# Altium schematic symbol library AUVic_Schematic_Library_Regulators.SchLib: 41 symbols (part 1 of 2)
Pins are listed as number, name and electrical type; pins without a type are passive.

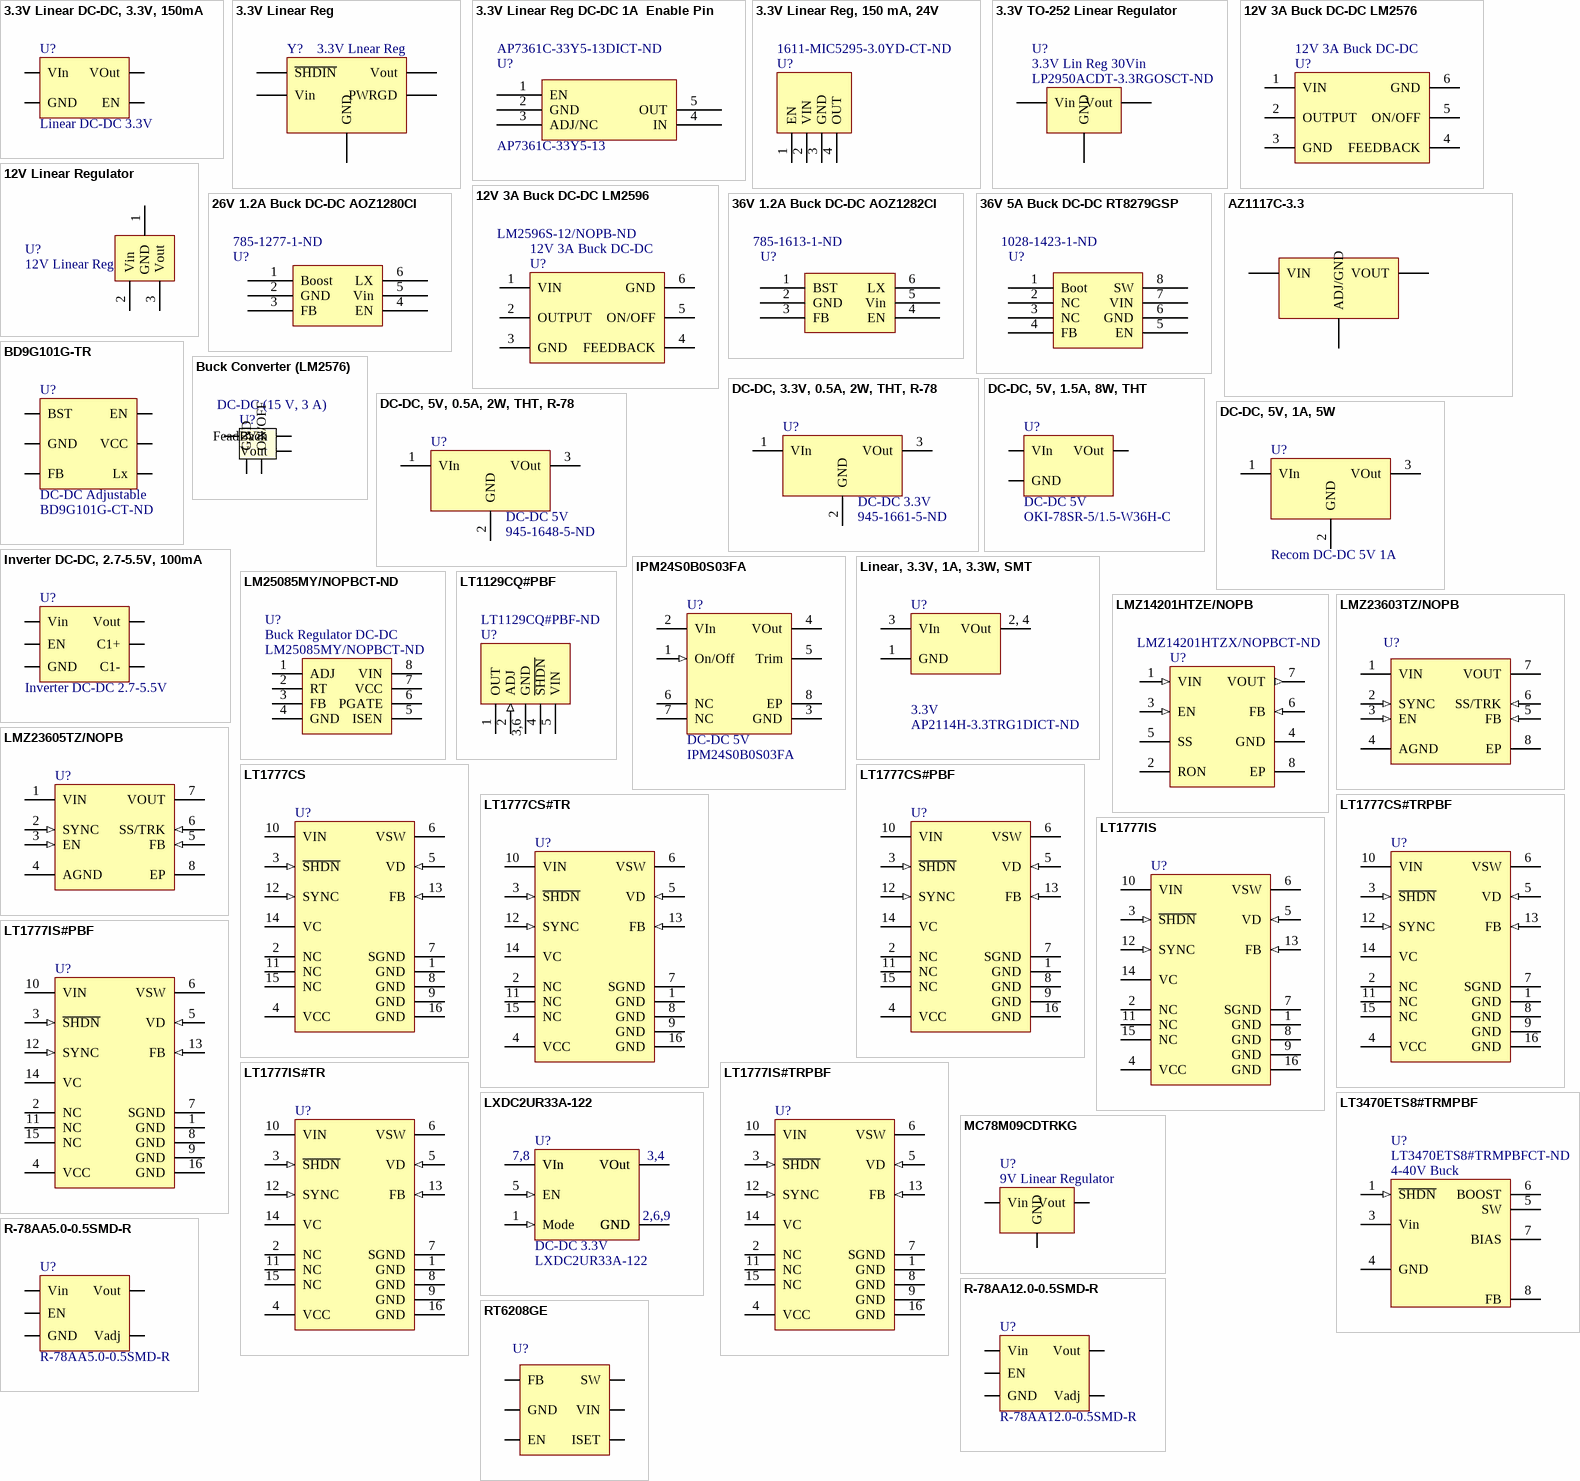
[diagram p0: symbols 3.3V Linear DC-DC, 3.3V, 150mA to RT6208GE]

## 3.3V Linear DC-DC, 3.3V, 150mA
designator U?, comment Linear DC-DC 3.3V
3.3V Linear DC-DC, 3.3V, 150mA; Manufacturer #: OKI-78SR-5/1.5-W36H-C; VIn Max: 16; Vin Min: 0V; Made By: Andy Bates; VOut1: 3.3V; Current: 150mA; Supplier 1: Digi-Key; Supplier Part Number 1: 576-2980-1-ND
footprint SOT-23-5
pins: 1 VIn (power), 2 GND (power), 3 EN, 5 VOut (power)

## 3.3V Linear Reg
designator Y?, comment 3.3V Lnear Reg
DC-DC, 3.3V, 1A, SMT; Manufacturer: Microchip Technology; Manufacturer Part Number: MCP1826-3302E/ET; Created By: Jordan Day; Date Created: 06/10/2016; Supplier: Digikey; Supplier Part Number: MCP1826-3302E/ET-ND
footprint 5-DDPAK
pins: 1 ~{SHDIN} "Shutdown Control Input", 2 Vin "Voltage Input", 3 GND "Ground", 4 Vout "Voltage Output", 5 PWRGD "Power Good Output"

## 3.3V Linear Reg DC-DC 1A  Enable Pin
designator U?, comment AP7361C-33Y5-13  Supplier Part Number 1: AP7361C-33Y5-13DICT-ND
3.3V Lin Reg, 6 Vin max, 1 A,  Enable Pin; Made By: Robert Keen; ComponentLink1Description: Digikey; ComponentLink1URL: https://www.digikey.ca/product-detail/en/diodes-incorporated/AP7361C-33Y5-13/AP7361C-33Y5-13DICT-ND/5638337; Supplier 1: Digi-Key; Created on: 2018-07-11
footprint SOT-89-5
pins: 1 EN, 2 GND, 3 ADJ/NC, 4 IN, 5 OUT

## 3.3V Linear Reg, 150 mA, 24V
designator U?  Supplier Part Number 1: 1611-MIC5295-3.0YD-CT-ND
24V Maximum Input Voltage, 700mA; Made By: Andy Bates; PinCount: 5; Created On: 2016-09-10; Supplier 1: Digi-Key
footprint TO252-5
pins: 1 EN (power), 2 VIN, 3 GND, 4 OUT (power)

## 3.3V TO-252 Linear Regulator
designator U?, comment 3.3V Lin Reg 30Vin  Supplier Part Number 1: LP2950ACDT-3.3RGOSCT-ND
Supplier 1: Digi-Key
footprint T0-252
pins: 1 GND, 2 Vin, 3 Vout

## 12V 3A Buck DC-DC LM2576
designator U?, comment 12V 3A Buck DC-DC
Buck Switching Regulator IC Positive Fixed 12V 1 Output 3A TO-263-6, D²Pak (5 Leads + Tab), TO-263BA; Supplier 1: Digi-Key; Created By: Poorna Chander Kalidas; ComponentLink1Description: Digi-Key; ComponentLink1URL: https://www.digikey.ca/product-detail/en/microchip-technology/LM2576-12WU/576-2130-ND/1027675; Supplier Part Number 1: 576-2130-ND
footprint 5-DDPAK
pins: 1 VIN, 2 OUTPUT, 3 GND, 4 FEEDBACK, 5 ON/OFF, 6 GND

## 12V 3A Buck DC-DC LM2596
designator U?, comment 12V 3A Buck DC-DC  Supplier Part Number 1: LM2596S-12/NOPB-ND
Buck Switching Regulator IC Positive Fixed 12V 1 Output 3A TO-263-6, D²Pak (5 Leads + Tab), TO-263BA; Created By: Poorna Chander Kalidas; ComponentLink1Description: Digi-Key; ComponentLink1URL: https://www.digikey.ca/product-detail/en/texas-instruments/LM2596S-12-NOPB/LM2596S-12-NOPB-ND/363703; Supplier 1: Digi-Key
footprint 5-DDPAK
pins: 1 VIN, 2 OUTPUT, 3 GND, 4 FEEDBACK, 5 ON/OFF, 6 GND

## 12V Linear Regulator
designator U?, comment 12V Linear Reg
Made By: Andy Bates; Supplier 1: Digikey; Supplier 1 Part Number: 497-1209-1-ND
footprint T0-252
pins: 1 GND, 2 Vin, 3 Vout

## 26V 1.2A Buck DC-DC AOZ1280CI
designator U?  Supplier Part Number 1: 785-1277-1-ND
Created by: Robert Keen; Created on: 2018-07-11; ComponentLink1Description: Digikey; ComponentLink1URL: https://www.digikey.ca/product-detail/en/alpha-omega-semiconductor-inc/AOZ1280CI/785-1277-1-ND/2769845; Supplier 1: Digi-Key
footprint SOT23-6_M (SOT23, 6-Leads, Body 2.9x1.6mm, Pitch 0.95mm, Lead Span 2.7mm, IPC Low Density)
pins: 1 Boost, 2 GND, 3 FB, 4 EN, 5 Vin, 6 LX

## 36V 1.2A Buck DC-DC AOZ1282CI
designator U?  Supplier Part Number 2: 785-1613-1-ND
Made by: Robert Keen; ComponentLink1Description: Digikey; ComponentLink1URL: https://www.digikey.ca/product-detail/en/alpha-omega-semiconductor-inc/AOZ1282CI/785-1613-1-ND/4147125; Supplier 1: Digi-Key; Made on: 2018-07-12; Supplier 2: Digi-Key
footprint SOT-23-6L (SOT23, 6-Leads, Body 3.1x1.7mm, Pitch 0.95mm)
pins: 1 BST, 2 GND, 3 FB, 4 EN, 5 Vin, 6 LX

## 36V 5A Buck DC-DC RT8279GSP
designator U?  Supplier Part Number 3: 1028-1423-1-ND
Made by: Robert Keen; Supplier 1: Digi-Key; Made on: 2017-07-18; Supplier 2: Digi-Key; ComponentLink1Description: Digikey; ComponentLink1URL: https://www.digikey.ca/product-detail/en/richtek-usa-inc/RT8279GSP/1028-1423-1-ND/5880353; Supplier 3: Digi-Key
footprint 8-SOP-EP
pins: 1 Boot, 2 NC, 3 NC, 4 FB, 5 EN, 6 GND, 7 VIN, 8 SW

## AZ1117C-3.3
designator Q?
3.3V Linear Regulator; Manufactuer Part No.: AZ1117CH-3.3TRG1; LatestRevisionDate: 17-Jul-2002; LatestRevisionNote: Re-released for DXP Platform.; Publisher: Altium Limited; Created By: Jordan; Supplier: Digikey; Supplier Part No.: AZ1117CH-3.3TRG1DICT-ND
footprint SOT-223-4pin
pins: 1 ADJ/GND "Adjust/Ground", 2 VOUT "Output", 3 VIN "Voltage Input"

## BD9G101G-TR
designator U?, comment DC-DC Adjustable  Supplier Part Number 1: BD9G101G-CT-ND
DC-DC Regulator, 6V-42V in, 1V-29.4V out, 500mA; Supplier 1: Digi-Key; Created By: Lyden Smith; Created On: 2017-06-02
footprint SOT23-6_L (SOT23, 6-Leads, Body 2.9x1.6mm, Pitch 0.95mm, Lead Span 2.7mm, IPC High Density)
footprint SOT23-6_M (SOT23, 6-Leads, Body 2.9x1.6mm, Pitch 0.95mm, Lead Span 2.7mm, IPC Low Density)
footprint SOT23-6_N (SOT23, 6-Leads, Body 2.9x1.6mm, Pitch 0.95mm, Lead Span 2.7mm, IPC Medium Density)
pins: 1 BST (power), 2 GND (power), 3 FB (power), 4 EN, 5 VCC (power), 6 Lx (power)

## Buck Converter (LM2576)
designator U?, comment DC-DC (15 V, 3 A)
pins: 1 Vin (power), 2 Vout (power), 3 GND (power), 4 FeadBack, 5 ON/OFF

## DC-DC, 3.3V, 0.5A, 2W, THT, R-78
designator U?, comment DC-DC 3.3V  Supplier Part Number 1: 945-1661-5-ND
DC-DC, 3.3V, 0.5A, 2W, THT, R-78; VIn Max: 7V; Vin Min: 28V; VOut1: 3.3V; Power: 2W; Current: 0.5A; Supplier 1: Digi-Key
footprint Recom_R-78
pins: 1 VIn (power), 2 GND (power), 3 VOut (power)

## DC-DC, 5V, 0.5A, 2W, THT, R-78
designator U?, comment DC-DC 5V  Supplier Part Number 1: 945-1648-5-ND
DC-DC, 5V, 0.5A, 2W, THT, R-78; VIn Max: 7V; Vin Min: 28V; VOut1: 5V; Power: 2W; Current: 0.5A; Supplier 1: Digi-Key
footprint Recom_R-78
pins: 1 VIn (power), 2 GND (power), 3 VOut (power)

## DC-DC, 5V, 1.5A, 8W, THT
designator U?, comment DC-DC 5V  Manufacturer #: OKI-78SR-5/1.5-W36H-C
DC-DC, 5V, 1.5A, 8W, THT; VIn Max: 7V; Vin Min: 36V; Supplier 1: Digi-Key; VOut1: 5V; Power: 8W; Current: 1.5A; Supplier Part Number 1: 811-2692-ND
footprint Murata_OKI-78SR
pins: 1 VIn (power), 2 GND (power), 3 VOut (power)

## DC-DC, 5V, 1A, 5W
designator U?, comment Recom DC-DC 5V 1A
Made by: Andy Bates; Supplier 1: Digikey; Supplier 1 part number: 945-2201-ND
footprint Recom_R-78
pins: 1 VIn (power), 2 GND (power), 3 VOut (power)

## Inverter DC-DC, 2.7-5.5V, 100mA
designator U?, comment Inverter DC-DC 2.7-5.5V
3.3V Linear DC-DC, 3.3V, 150mA; Manufacturer #: LM2776; Vin Max: 5.5V; Vin Min: 2.7V; Output Impedance: 2.5; Current: 200mA; Made By: Robert Keen; Supplier 1: Digi-Key; Supplier Part Number 1: 296-43957-1-ND; ComponentLink1Description: DigiKey; ComponentLink1URL: https://www.digikey.ca/product-detail/en/texas-instruments/LM2776DBVR/296-43957-1-ND/5973203
footprint SOT-23-6
pins: 1 Vin (power), 2 EN (power), 2 GND (power), 2 C1- (power), 3 C1+, 5 Vout (power)

## IPM24S0B0S03FA
designator U?, comment DC-DC 5V  Manufacturer #: IPM24S0B0S03FA
DC-DC, 5V, 3A, 20W, SMT; VIn Max: 11V; Vin Min: 36V; VOut1: 3.3V-6.5V; Power: 20W; Current: 3A; Supplier 1: Digi-Key; Supplier Part Number 1: 941-1010-1-ND
footprint IPM24S0B0S03FA
pins: 1 On/Off (in), 2 VIn (power), 3 GND (power), 4 VOut (power), 5 Trim (power), 6 NC, 7 NC, 8 EP (power)

## Linear, 3.3V, 1A, 3.3W, SMT
designator U?, comment 3.3V  Supplier Part Number 1: AP2114H-3.3TRG1DICT-ND
Linear, 3.3V, 1A, 3.3W, SMT; Made By: Andy Bates; VIn Max: 6V; Supplier 1 Part Number: AP2114H-3.3TRG1DICT-ND; VIn Min: *; VOut: 3.3V; Supplier 1: Digi-Key
footprint SOT-223-4pin
pins: 1 GND (power), 2 VOut (power), 3 VIn (power), 4 VOut (power)
1 alternate drawing of the same symbol
text: 2, 4

## LM25085MY/NOPBCT-ND
designator U?, comment Buck Regulator DC-DC  Supplier Part Number 1: LM25085MY/NOPBCT-ND
Supplier 1: Digi-Key
footprint 8-MSOP-EP
pins: 1 ADJ, 2 RT, 3 FB, 4 GND, 5 ISEN, 6 PGATE, 7 VCC, 8 VIN

## LMZ14201HTZE/NOPB
designator U?  Supplier Part Number 1: LMZ14201HTZX/NOPBCT-ND
1A SIMPLE SWITCHER® Power Module with 42V Maximum Input, 7-pin TO-PMOD, Pb-Free, 45 Rail; PartNumber: LMZ14201HTZE/NOPB; Manufacturer: National Semiconductor; PackageTopMarking: NSUZXYTTE#*LMZ14201*HTZ; PowerWise: Y; DatasheetVersion: Jan-2011; PackageVersion: revD, Apr-2011; PackageReference: TZA07A; PackageDescription: TO-PMOD-7, 10.16 x 9.85 x 4.57 mm Body, 7 Lead, 1.27mm Pitch, Surface Mount; RoHS: Y; PinCount: 7; CompType: Switcher; High-Reliability: Y; ComponentLink1Description: Manufacturer URL; ComponentLink1URL: http://www.national.com/; ComponentLink2Description: LMZ14201 Datasheet; ComponentLink2URL: http://www.national.com/ds/LM/LMZ14201H.pdf; ComponentLink3Description: LMZ14201H Web Page; ComponentLink3URL: http://www.national.com/pf/LM/LMZ14201H.html; ComponentLink4Description: TZA07A Package Page; ComponentLink4URL: http://www.national.com/packaging/folders/tza07a.html; Supplier 1: Digi-Key
footprint TZA07A_V (D2-PAK, 8-Leads, Body 9.9x10.2mm, Pitch 1.27mm, Lead Span 13.8mm, NSC Recommended)
pins: 1 VIN (in), 2 RON, 3 EN (in), 4 GND (power), 5 SS, 6 FB (in), 7 VOUT (out), 8 EP

## LMZ23603TZ/NOPB
designator U?
3A SIMPLE SWITCHER® Power Module with 36V Maximum Input Voltage, 7 pin TO-PMOD, 45 Rail; PartNumber: LMZ23603TZ/NOPB; Manufacturer: National Semiconductor; PackageTopMarking: NSUZXYTTE#*LMZ23603; PowerWise: N; High-Reliability: Y; DatasheetVersion: Apr-2011; PackageVersion: revD, Apr-2011; PackageReference: TZA07A; PackageDescription: TO-PMOD-7, 10.16 x 9.85 x 4.57 mm Body, 7 Lead, 1.27mm Pitch, Surface Mount; RoHS: Y; PinCount: 7; CompType: Switcher; ComponentLink1Description: Manufacturer URL; ComponentLink1URL: http://www.national.com/; ComponentLink2Description: LMZ23603 Datasheet; ComponentLink2URL: http://www.national.com/ds/LM/LMZ23603.pdf; ComponentLink3Description: LMZ23603 Web Page; ComponentLink3URL: http://www.national.com/pf/LM/LMZ23603.html; ComponentLink4Description: TZA07A Package Page; ComponentLink4URL: http://www.national.com/packaging/folders/tza07a.html; Supplier 1: Digi-Key; Supplier Part Number 1: LMZ23603TZ/NOPB-ND
footprint TZA07A_V (D2-PAK, 8-Leads, Body 9.9x10.2mm, Pitch 1.27mm, Lead Span 13.8mm, NSC Recommended)
pins: 1 VIN (power), 2 SYNC (in), 3 EN (in), 4 AGND (power), 5 FB (in), 6 SS/TRK (in), 7 VOUT (power), 8 EP (power)

## LMZ23605TZ/NOPB
designator U?
5A SIMPLE SWITCHER® Power Module with 36V Maximum Input Voltage, 7 pin TO-PMOD, 45 Rail; PartNumber: LMZ23605TZ/NOPB; Manufacturer: National Semiconductor; PackageTopMarking: NSUZXYTTE#*LMZ23605; PowerWise: N; High-Reliability: Y; DatasheetVersion: Apr-2011; PackageVersion: revD, Apr-2011; PackageReference: TZA07A; PackageDescription: TO-PMOD-7, 10.16 x 9.85 x 4.57 mm Body, 7 Lead, 1.27mm Pitch, Surface Mount; RoHS: Y; PinCount: 7; CompType: Switcher; ComponentLink1Description: Manufacturer URL; ComponentLink1URL: http://www.national.com/; ComponentLink2Description: LMZ23605 Datasheet; ComponentLink2URL: http://www.national.com/ds/LM/LMZ23605.pdf; ComponentLink3Description: LMZ23605 Web Page; ComponentLink3URL: http://www.national.com/pf/LM/LMZ23605.html; ComponentLink4Description: TZA07A Package Page; ComponentLink4URL: http://www.national.com/packaging/folders/tza07a.html; Supplier 1: Digi-Key; Supplier Part Number 1: 296-35357-1-ND
footprint TZA07A_V (D2-PAK, 8-Leads, Body 9.9x10.2mm, Pitch 1.27mm, Lead Span 13.8mm, NSC Recommended)
pins: 1 VIN (power), 2 SYNC (in), 3 EN (in), 4 AGND (power), 5 FB (in), 6 SS/TRK (in), 7 VOUT (power), 8 EP (power)

## LT1129CQ#PBF
designator U?  Supplier Part Number 1: LT1129CQ#PBF-ND
30V Maximum Input Voltage, 700mA; Made By: Andy Bates; PinCount: 7; Created On: 2016-09-10; Supplier 1: Digi-Key
footprint 5-DDPAK
pins: 1 OUT (power), 2 ADJ (in), 3,6 GND, 4 ~{SHDN} (power), 5 VIN

## LT1777CS
designator U?
Low Noise Step-Down Switching Regulator, 16-pin SOP (S-16), 0 to 125 degC; Manufacturer: Linear Technology; PartNumber: LT1777CS; Frequency Sync Range: 130kHz - 250kHz; Number of Outputs: 1; PackageVersion: Rev. G, 05/2012; PackageReference: S-16; PackageDescription: 16-Pin Plastic Small Outline, Body 9.9 x 3.9 mm, Pitch 1.27 mm; Supplier 1: Digi-Key; Supplier Part Number 1: LT1777CS-ND; RoHS: FALSE; Mounting Technology: Surface Mount; ComponentLink1Description: Manufacturer URL; ComponentLink1URL: http://www.linear.com/; ComponentLink2Description: Datasheet; ComponentLink2URL: http://cds.linear.com/docs/en/datasheet/1777f.pdf; ComponentLink3Description: Package Specification; ComponentLink3URL: http://cds.linear.com/docs/en/packaging/S16%2005-08-1610%20Rev%20G.pdf
footprint LT-S-16_N (SOP, 16-Leads, Body 10x4mm, Pitch 1.27mm, IPC Medium Density)
footprint LT-S-16_L (SOP, 16-Leads, Body 10x4mm, Pitch 1.27mm, IPC High Density)
footprint LT-S-16_M (SOP, 16-Leads, Body 10x4mm, Pitch 1.27mm, IPC Low Density)
pins: 1 GND (power) "These corner package pins are mechanically connected to the die paddle and thus aid in conducting away internally generated heat. As these are electrically connected to the die substrate, they must be held at ground (See Datasheet)", 2 NC "Package Pins 2, 11 and 15 are unconnected.", 3 ~{SHDN} (in) "When pulled below the shutdown mode threshold, nominally 0.5V, this pin turns off the regulator and reduces VIN input current to a few tens of microamperes (shutdown mode). When this pin is held above the shutdown mode (See Datasheet)", 4 VCC (power) "Pin to power the internal control circuitry from the switching supply output. Proper use of this pin enhances overall power supply efficiency. During start-up conditions, internal control circuitry is powered directly from (See Datasheet)", 5 VD (in) "This pin is used in conjunction with a small external sense inductor to limit power path dI/dt. The sense inductor is placed between the VSW output node and the cathode of the freewheeling (power) diode, and the VD pin is (See Datasheet)", 6 VSW (power) "This is the emitter node of the output switch and has large currents flowing through it. Keep the traces to the switching components as short as possible to minimize electromagnetic radiation and voltage spikes.", 7 SGND (power) "This is the device signal ground pin. The internal reference and feedback amplifier are referred to it. Keep the ground path connection to the FB divider and the VC compensation capacitor free of large ground currents.", 8 GND (power) "These corner package pins are mechanically connected to the die paddle and thus aid in conducting away internally generated heat. As these are electrically connected to the die substrate, they must be held at ground (See Datasheet)", 9 GND (power) "These corner package pins are mechanically connected to the die paddle and thus aid in conducting away internally generated heat. As these are electrically connected to the die substrate, they must be held at ground (See Datasheet)", 10 VIN (power) "This is the high voltage supply pin for the output switch. It also supplies power to the internal control circuitry during start-up conditions or if the VCC pin is left open. A high quality bypass capacitor which meets the (See Datasheet)", 11 NC "Package Pins 2, 11 and 15 are unconnected.", 12 SYNC (in) "Pin to synchronize internal oscillator to external frequency reference. It is directly logic compatible and can be driven with any signal between 10% and 90% duty cycle. The sync function is internally disabled if the FB pin (See Datasheet)", 13 FB (in) "This is the inverting input to the feedback amplifier. The noninverting input of this amplifier is internally tied to the 1.24V reference. This pin also slows down the frequency of the internal oscillator when its voltage is (See Datasheet)", 14 VC "This is the control voltage pin which is the output of the feedback amplifier and the input of the current comparator. Frequency compensation of the overall loop is effected by placing a capacitor (or in most cases a series (See Datasheet)", 15 NC "Package Pins 2, 11 and 15 are unconnected.", 16 GND (power) "These corner package pins are mechanically connected to the die paddle and thus aid in conducting away internally generated heat. As these are electrically connected to the die substrate, they must be held at ground (See Datasheet)"

## LT1777CS#PBF
designator U?
Low Noise Step-Down Switching Regulator, 16-pin SOP (S-16), 0 to 125 degC, Pb-Free; Manufacturer: Linear Technology; PartNumber: LT1777CS#PBF; Frequency Sync Range: 130kHz - 250kHz; Number of Outputs: 1; PackageVersion: Rev. G, 05/2012; PackageReference: S-16; PackageDescription: 16-Pin Plastic Small Outline, Body 9.9 x 3.9 mm, Pitch 1.27 mm; Supplier 1: Digi-Key; Supplier Part Number 1: LT1777CS#PBF-ND; Supplier 2: Farnell; Supplier Part Number 2: 1273790; Supplier 3: Newark; Supplier Part Number 3: 57M6299; RoHS: TRUE; Mounting Technology: Surface Mount; ComponentLink1Description: Manufacturer URL; ComponentLink1URL: http://www.linear.com/; ComponentLink2Description: Datasheet; ComponentLink2URL: http://cds.linear.com/docs/en/datasheet/1777f.pdf; ComponentLink3Description: Package Specification; ComponentLink3URL: http://cds.linear.com/docs/en/packaging/S16%2005-08-1610%20Rev%20G.pdf
footprint LT-S-16_N (SOP, 16-Leads, Body 10x4mm, Pitch 1.27mm, IPC Medium Density)
footprint LT-S-16_L (SOP, 16-Leads, Body 10x4mm, Pitch 1.27mm, IPC High Density)
footprint LT-S-16_M (SOP, 16-Leads, Body 10x4mm, Pitch 1.27mm, IPC Low Density)
pins: 1 GND (power) "These corner package pins are mechanically connected to the die paddle and thus aid in conducting away internally generated heat. As these are electrically connected to the die substrate, they must be held at ground (See Datasheet)", 2 NC "Package Pins 2, 11 and 15 are unconnected.", 3 ~{SHDN} (in) "When pulled below the shutdown mode threshold, nominally 0.5V, this pin turns off the regulator and reduces VIN input current to a few tens of microamperes (shutdown mode). When this pin is held above the shutdown mode (See Datasheet)", 4 VCC (power) "Pin to power the internal control circuitry from the switching supply output. Proper use of this pin enhances overall power supply efficiency. During start-up conditions, internal control circuitry is powered directly from (See Datasheet)", 5 VD (in) "This pin is used in conjunction with a small external sense inductor to limit power path dI/dt. The sense inductor is placed between the VSW output node and the cathode of the freewheeling (power) diode, and the VD pin is (See Datasheet)", 6 VSW (power) "This is the emitter node of the output switch and has large currents flowing through it. Keep the traces to the switching components as short as possible to minimize electromagnetic radiation and voltage spikes.", 7 SGND (power) "This is the device signal ground pin. The internal reference and feedback amplifier are referred to it. Keep the ground path connection to the FB divider and the VC compensation capacitor free of large ground currents.", 8 GND (power) "These corner package pins are mechanically connected to the die paddle and thus aid in conducting away internally generated heat. As these are electrically connected to the die substrate, they must be held at ground (See Datasheet)", 9 GND (power) "These corner package pins are mechanically connected to the die paddle and thus aid in conducting away internally generated heat. As these are electrically connected to the die substrate, they must be held at ground (See Datasheet)", 10 VIN (power) "This is the high voltage supply pin for the output switch. It also supplies power to the internal control circuitry during start-up conditions or if the VCC pin is left open. A high quality bypass capacitor which meets the (See Datasheet)", 11 NC "Package Pins 2, 11 and 15 are unconnected.", 12 SYNC (in) "Pin to synchronize internal oscillator to external frequency reference. It is directly logic compatible and can be driven with any signal between 10% and 90% duty cycle. The sync function is internally disabled if the FB pin (See Datasheet)", 13 FB (in) "This is the inverting input to the feedback amplifier. The noninverting input of this amplifier is internally tied to the 1.24V reference. This pin also slows down the frequency of the internal oscillator when its voltage is (See Datasheet)", 14 VC "This is the control voltage pin which is the output of the feedback amplifier and the input of the current comparator. Frequency compensation of the overall loop is effected by placing a capacitor (or in most cases a series (See Datasheet)", 15 NC "Package Pins 2, 11 and 15 are unconnected.", 16 GND (power) "These corner package pins are mechanically connected to the die paddle and thus aid in conducting away internally generated heat. As these are electrically connected to the die substrate, they must be held at ground (See Datasheet)"

## LT1777CS#TR
designator U?
Low Noise Step-Down Switching Regulator, 16-pin SOP (S-16), 0 to 125 degC, Tape and Reel; Manufacturer: Linear Technology; PartNumber: LT1777CS#TR; Frequency Sync Range: 130kHz - 250kHz; Number of Outputs: 1; PackageVersion: Rev. G, 05/2012; PackageReference: S-16; PackageDescription: 16-Pin Plastic Small Outline, Body 9.9 x 3.9 mm, Pitch 1.27 mm; Supplier 1: Digi-Key; Supplier Part Number 1: LT1777CS#TR-ND; Packing: Tape and Reel; RoHS: FALSE; Mounting Technology: Surface Mount; ComponentLink1Description: Manufacturer URL; ComponentLink1URL: http://www.linear.com/; ComponentLink2Description: Datasheet; ComponentLink2URL: http://cds.linear.com/docs/en/datasheet/1777f.pdf; ComponentLink3Description: Package Specification; ComponentLink3URL: http://cds.linear.com/docs/en/packaging/S16%2005-08-1610%20Rev%20G.pdf
footprint LT-S-16_N (SOP, 16-Leads, Body 10x4mm, Pitch 1.27mm, IPC Medium Density)
footprint LT-S-16_L (SOP, 16-Leads, Body 10x4mm, Pitch 1.27mm, IPC High Density)
footprint LT-S-16_M (SOP, 16-Leads, Body 10x4mm, Pitch 1.27mm, IPC Low Density)
pins: 1 GND (power) "These corner package pins are mechanically connected to the die paddle and thus aid in conducting away internally generated heat. As these are electrically connected to the die substrate, they must be held at ground (See Datasheet)", 2 NC "Package Pins 2, 11 and 15 are unconnected.", 3 ~{SHDN} (in) "When pulled below the shutdown mode threshold, nominally 0.5V, this pin turns off the regulator and reduces VIN input current to a few tens of microamperes (shutdown mode). When this pin is held above the shutdown mode (See Datasheet)", 4 VCC (power) "Pin to power the internal control circuitry from the switching supply output. Proper use of this pin enhances overall power supply efficiency. During start-up conditions, internal control circuitry is powered directly from (See Datasheet)", 5 VD (in) "This pin is used in conjunction with a small external sense inductor to limit power path dI/dt. The sense inductor is placed between the VSW output node and the cathode of the freewheeling (power) diode, and the VD pin is (See Datasheet)", 6 VSW (power) "This is the emitter node of the output switch and has large currents flowing through it. Keep the traces to the switching components as short as possible to minimize electromagnetic radiation and voltage spikes.", 7 SGND (power) "This is the device signal ground pin. The internal reference and feedback amplifier are referred to it. Keep the ground path connection to the FB divider and the VC compensation capacitor free of large ground currents.", 8 GND (power) "These corner package pins are mechanically connected to the die paddle and thus aid in conducting away internally generated heat. As these are electrically connected to the die substrate, they must be held at ground (See Datasheet)", 9 GND (power) "These corner package pins are mechanically connected to the die paddle and thus aid in conducting away internally generated heat. As these are electrically connected to the die substrate, they must be held at ground (See Datasheet)", 10 VIN (power) "This is the high voltage supply pin for the output switch. It also supplies power to the internal control circuitry during start-up conditions or if the VCC pin is left open. A high quality bypass capacitor which meets the (See Datasheet)", 11 NC "Package Pins 2, 11 and 15 are unconnected.", 12 SYNC (in) "Pin to synchronize internal oscillator to external frequency reference. It is directly logic compatible and can be driven with any signal between 10% and 90% duty cycle. The sync function is internally disabled if the FB pin (See Datasheet)", 13 FB (in) "This is the inverting input to the feedback amplifier. The noninverting input of this amplifier is internally tied to the 1.24V reference. This pin also slows down the frequency of the internal oscillator when its voltage is (See Datasheet)", 14 VC "This is the control voltage pin which is the output of the feedback amplifier and the input of the current comparator. Frequency compensation of the overall loop is effected by placing a capacitor (or in most cases a series (See Datasheet)", 15 NC "Package Pins 2, 11 and 15 are unconnected.", 16 GND (power) "These corner package pins are mechanically connected to the die paddle and thus aid in conducting away internally generated heat. As these are electrically connected to the die substrate, they must be held at ground (See Datasheet)"

## LT1777CS#TRPBF
designator U?
Low Noise Step-Down Switching Regulator, 16-pin SOP (S-16), 0 to 125 degC, Pb-Free, Tape and Reel; Manufacturer: Linear Technology; PartNumber: LT1777CS#TRPBF; Frequency Sync Range: 130kHz - 250kHz; Number of Outputs: 1; PackageVersion: Rev. G, 05/2012; PackageReference: S-16; PackageDescription: 16-Pin Plastic Small Outline, Body 9.9 x 3.9 mm, Pitch 1.27 mm; Supplier 1: Digi-Key; Supplier Part Number 1: LT1777CS#TRPBF-ND; Packing: Tape and Reel; RoHS: TRUE; Mounting Technology: Surface Mount; ComponentLink1Description: Manufacturer URL; ComponentLink1URL: http://www.linear.com/; ComponentLink2Description: Datasheet; ComponentLink2URL: http://cds.linear.com/docs/en/datasheet/1777f.pdf; ComponentLink3Description: Package Specification; ComponentLink3URL: http://cds.linear.com/docs/en/packaging/S16%2005-08-1610%20Rev%20G.pdf
footprint LT-S-16_N (SOP, 16-Leads, Body 10x4mm, Pitch 1.27mm, IPC Medium Density)
footprint LT-S-16_L (SOP, 16-Leads, Body 10x4mm, Pitch 1.27mm, IPC High Density)
footprint LT-S-16_M (SOP, 16-Leads, Body 10x4mm, Pitch 1.27mm, IPC Low Density)
pins: 1 GND (power) "These corner package pins are mechanically connected to the die paddle and thus aid in conducting away internally generated heat. As these are electrically connected to the die substrate, they must be held at ground (See Datasheet)", 2 NC "Package Pins 2, 11 and 15 are unconnected.", 3 ~{SHDN} (in) "When pulled below the shutdown mode threshold, nominally 0.5V, this pin turns off the regulator and reduces VIN input current to a few tens of microamperes (shutdown mode). When this pin is held above the shutdown mode (See Datasheet)", 4 VCC (power) "Pin to power the internal control circuitry from the switching supply output. Proper use of this pin enhances overall power supply efficiency. During start-up conditions, internal control circuitry is powered directly from (See Datasheet)", 5 VD (in) "This pin is used in conjunction with a small external sense inductor to limit power path dI/dt. The sense inductor is placed between the VSW output node and the cathode of the freewheeling (power) diode, and the VD pin is (See Datasheet)", 6 VSW (power) "This is the emitter node of the output switch and has large currents flowing through it. Keep the traces to the switching components as short as possible to minimize electromagnetic radiation and voltage spikes.", 7 SGND (power) "This is the device signal ground pin. The internal reference and feedback amplifier are referred to it. Keep the ground path connection to the FB divider and the VC compensation capacitor free of large ground currents.", 8 GND (power) "These corner package pins are mechanically connected to the die paddle and thus aid in conducting away internally generated heat. As these are electrically connected to the die substrate, they must be held at ground (See Datasheet)", 9 GND (power) "These corner package pins are mechanically connected to the die paddle and thus aid in conducting away internally generated heat. As these are electrically connected to the die substrate, they must be held at ground (See Datasheet)", 10 VIN (power) "This is the high voltage supply pin for the output switch. It also supplies power to the internal control circuitry during start-up conditions or if the VCC pin is left open. A high quality bypass capacitor which meets the (See Datasheet)", 11 NC "Package Pins 2, 11 and 15 are unconnected.", 12 SYNC (in) "Pin to synchronize internal oscillator to external frequency reference. It is directly logic compatible and can be driven with any signal between 10% and 90% duty cycle. The sync function is internally disabled if the FB pin (See Datasheet)", 13 FB (in) "This is the inverting input to the feedback amplifier. The noninverting input of this amplifier is internally tied to the 1.24V reference. This pin also slows down the frequency of the internal oscillator when its voltage is (See Datasheet)", 14 VC "This is the control voltage pin which is the output of the feedback amplifier and the input of the current comparator. Frequency compensation of the overall loop is effected by placing a capacitor (or in most cases a series (See Datasheet)", 15 NC "Package Pins 2, 11 and 15 are unconnected.", 16 GND (power) "These corner package pins are mechanically connected to the die paddle and thus aid in conducting away internally generated heat. As these are electrically connected to the die substrate, they must be held at ground (See Datasheet)"

## LT1777IS
designator U?
Low Noise Step-Down Switching Regulator, 16-pin SOP (S-16), -40 to 125 degC; Manufacturer: Linear Technology; PartNumber: LT1777IS; Frequency Sync Range: 130kHz - 250kHz; Number of Outputs: 1; PackageVersion: Rev. G, 05/2012; PackageReference: S-16; PackageDescription: 16-Pin Plastic Small Outline, Body 9.9 x 3.9 mm, Pitch 1.27 mm; Supplier 1: Digi-Key; Supplier Part Number 1: LT1777IS-ND; RoHS: FALSE; Mounting Technology: Surface Mount; ComponentLink1Description: Manufacturer URL; ComponentLink1URL: http://www.linear.com/; ComponentLink2Description: Datasheet; ComponentLink2URL: http://cds.linear.com/docs/en/datasheet/1777f.pdf; ComponentLink3Description: Package Specification; ComponentLink3URL: http://cds.linear.com/docs/en/packaging/S16%2005-08-1610%20Rev%20G.pdf
footprint LT-S-16_N (SOP, 16-Leads, Body 10x4mm, Pitch 1.27mm, IPC Medium Density)
footprint LT-S-16_L (SOP, 16-Leads, Body 10x4mm, Pitch 1.27mm, IPC High Density)
footprint LT-S-16_M (SOP, 16-Leads, Body 10x4mm, Pitch 1.27mm, IPC Low Density)
pins: 1 GND (power) "These corner package pins are mechanically connected to the die paddle and thus aid in conducting away internally generated heat. As these are electrically connected to the die substrate, they must be held at ground (See Datasheet)", 2 NC "Package Pins 2, 11 and 15 are unconnected.", 3 ~{SHDN} (in) "When pulled below the shutdown mode threshold, nominally 0.5V, this pin turns off the regulator and reduces VIN input current to a few tens of microamperes (shutdown mode). When this pin is held above the shutdown mode (See Datasheet)", 4 VCC (power) "Pin to power the internal control circuitry from the switching supply output. Proper use of this pin enhances overall power supply efficiency. During start-up conditions, internal control circuitry is powered directly from (See Datasheet)", 5 VD (in) "This pin is used in conjunction with a small external sense inductor to limit power path dI/dt. The sense inductor is placed between the VSW output node and the cathode of the freewheeling (power) diode, and the VD pin is (See Datasheet)", 6 VSW (power) "This is the emitter node of the output switch and has large currents flowing through it. Keep the traces to the switching components as short as possible to minimize electromagnetic radiation and voltage spikes.", 7 SGND (power) "This is the device signal ground pin. The internal reference and feedback amplifier are referred to it. Keep the ground path connection to the FB divider and the VC compensation capacitor free of large ground currents.", 8 GND (power) "These corner package pins are mechanically connected to the die paddle and thus aid in conducting away internally generated heat. As these are electrically connected to the die substrate, they must be held at ground (See Datasheet)", 9 GND (power) "These corner package pins are mechanically connected to the die paddle and thus aid in conducting away internally generated heat. As these are electrically connected to the die substrate, they must be held at ground (See Datasheet)", 10 VIN (power) "This is the high voltage supply pin for the output switch. It also supplies power to the internal control circuitry during start-up conditions or if the VCC pin is left open. A high quality bypass capacitor which meets the (See Datasheet)", 11 NC "Package Pins 2, 11 and 15 are unconnected.", 12 SYNC (in) "Pin to synchronize internal oscillator to external frequency reference. It is directly logic compatible and can be driven with any signal between 10% and 90% duty cycle. The sync function is internally disabled if the FB pin (See Datasheet)", 13 FB (in) "This is the inverting input to the feedback amplifier. The noninverting input of this amplifier is internally tied to the 1.24V reference. This pin also slows down the frequency of the internal oscillator when its voltage is (See Datasheet)", 14 VC "This is the control voltage pin which is the output of the feedback amplifier and the input of the current comparator. Frequency compensation of the overall loop is effected by placing a capacitor (or in most cases a series (See Datasheet)", 15 NC "Package Pins 2, 11 and 15 are unconnected.", 16 GND (power) "These corner package pins are mechanically connected to the die paddle and thus aid in conducting away internally generated heat. As these are electrically connected to the die substrate, they must be held at ground (See Datasheet)"

## LT1777IS#PBF
designator U?
Low Noise Step-Down Switching Regulator, 16-pin SOP (S-16), -40 to 125 degC, Pb-Free; Manufacturer: Linear Technology; PartNumber: LT1777IS#PBF; Frequency Sync Range: 130kHz - 250kHz; Number of Outputs: 1; PackageVersion: Rev. G, 05/2012; PackageReference: S-16; PackageDescription: 16-Pin Plastic Small Outline, Body 9.9 x 3.9 mm, Pitch 1.27 mm; Supplier 1: Digi-Key; Supplier Part Number 1: LT1777IS#PBF-ND; Supplier 2: Farnell; Supplier Part Number 2: 1663493; Supplier 3: Newark; Supplier Part Number 3: 57M6303; RoHS: TRUE; Mounting Technology: Surface Mount; ComponentLink1Description: Manufacturer URL; ComponentLink1URL: http://www.linear.com/; ComponentLink2Description: Datasheet; ComponentLink2URL: http://cds.linear.com/docs/en/datasheet/1777f.pdf; ComponentLink3Description: Package Specification; ComponentLink3URL: http://cds.linear.com/docs/en/packaging/S16%2005-08-1610%20Rev%20G.pdf
footprint LT-S-16_N (SOP, 16-Leads, Body 10x4mm, Pitch 1.27mm, IPC Medium Density)
footprint LT-S-16_L (SOP, 16-Leads, Body 10x4mm, Pitch 1.27mm, IPC High Density)
footprint LT-S-16_M (SOP, 16-Leads, Body 10x4mm, Pitch 1.27mm, IPC Low Density)
pins: 1 GND (power) "These corner package pins are mechanically connected to the die paddle and thus aid in conducting away internally generated heat. As these are electrically connected to the die substrate, they must be held at ground (See Datasheet)", 2 NC "Package Pins 2, 11 and 15 are unconnected.", 3 ~{SHDN} (in) "When pulled below the shutdown mode threshold, nominally 0.5V, this pin turns off the regulator and reduces VIN input current to a few tens of microamperes (shutdown mode). When this pin is held above the shutdown mode (See Datasheet)", 4 VCC (power) "Pin to power the internal control circuitry from the switching supply output. Proper use of this pin enhances overall power supply efficiency. During start-up conditions, internal control circuitry is powered directly from (See Datasheet)", 5 VD (in) "This pin is used in conjunction with a small external sense inductor to limit power path dI/dt. The sense inductor is placed between the VSW output node and the cathode of the freewheeling (power) diode, and the VD pin is (See Datasheet)", 6 VSW (power) "This is the emitter node of the output switch and has large currents flowing through it. Keep the traces to the switching components as short as possible to minimize electromagnetic radiation and voltage spikes.", 7 SGND (power) "This is the device signal ground pin. The internal reference and feedback amplifier are referred to it. Keep the ground path connection to the FB divider and the VC compensation capacitor free of large ground currents.", 8 GND (power) "These corner package pins are mechanically connected to the die paddle and thus aid in conducting away internally generated heat. As these are electrically connected to the die substrate, they must be held at ground (See Datasheet)", 9 GND (power) "These corner package pins are mechanically connected to the die paddle and thus aid in conducting away internally generated heat. As these are electrically connected to the die substrate, they must be held at ground (See Datasheet)", 10 VIN (power) "This is the high voltage supply pin for the output switch. It also supplies power to the internal control circuitry during start-up conditions or if the VCC pin is left open. A high quality bypass capacitor which meets the (See Datasheet)", 11 NC "Package Pins 2, 11 and 15 are unconnected.", 12 SYNC (in) "Pin to synchronize internal oscillator to external frequency reference. It is directly logic compatible and can be driven with any signal between 10% and 90% duty cycle. The sync function is internally disabled if the FB pin (See Datasheet)", 13 FB (in) "This is the inverting input to the feedback amplifier. The noninverting input of this amplifier is internally tied to the 1.24V reference. This pin also slows down the frequency of the internal oscillator when its voltage is (See Datasheet)", 14 VC "This is the control voltage pin which is the output of the feedback amplifier and the input of the current comparator. Frequency compensation of the overall loop is effected by placing a capacitor (or in most cases a series (See Datasheet)", 15 NC "Package Pins 2, 11 and 15 are unconnected.", 16 GND (power) "These corner package pins are mechanically connected to the die paddle and thus aid in conducting away internally generated heat. As these are electrically connected to the die substrate, they must be held at ground (See Datasheet)"

## LT1777IS#TR
designator U?
Low Noise Step-Down Switching Regulator, 16-pin SOP (S-16), -40 to 125 degC, Tape and Reel; Manufacturer: Linear Technology; PartNumber: LT1777IS#TR; Frequency Sync Range: 130kHz - 250kHz; Number of Outputs: 1; PackageVersion: Rev. G, 05/2012; PackageReference: S-16; PackageDescription: 16-Pin Plastic Small Outline, Body 9.9 x 3.9 mm, Pitch 1.27 mm; Supplier 1: Digi-Key; Supplier Part Number 1: LT1777IS#TR-ND; Packing: Tape and Reel; RoHS: FALSE; Mounting Technology: Surface Mount; ComponentLink1Description: Manufacturer URL; ComponentLink1URL: http://www.linear.com/; ComponentLink2Description: Datasheet; ComponentLink2URL: http://cds.linear.com/docs/en/datasheet/1777f.pdf; ComponentLink3Description: Package Specification; ComponentLink3URL: http://cds.linear.com/docs/en/packaging/S16%2005-08-1610%20Rev%20G.pdf
footprint LT-S-16_N (SOP, 16-Leads, Body 10x4mm, Pitch 1.27mm, IPC Medium Density)
footprint LT-S-16_L (SOP, 16-Leads, Body 10x4mm, Pitch 1.27mm, IPC High Density)
footprint LT-S-16_M (SOP, 16-Leads, Body 10x4mm, Pitch 1.27mm, IPC Low Density)
pins: 1 GND (power) "These corner package pins are mechanically connected to the die paddle and thus aid in conducting away internally generated heat. As these are electrically connected to the die substrate, they must be held at ground (See Datasheet)", 2 NC "Package Pins 2, 11 and 15 are unconnected.", 3 ~{SHDN} (in) "When pulled below the shutdown mode threshold, nominally 0.5V, this pin turns off the regulator and reduces VIN input current to a few tens of microamperes (shutdown mode). When this pin is held above the shutdown mode (See Datasheet)", 4 VCC (power) "Pin to power the internal control circuitry from the switching supply output. Proper use of this pin enhances overall power supply efficiency. During start-up conditions, internal control circuitry is powered directly from (See Datasheet)", 5 VD (in) "This pin is used in conjunction with a small external sense inductor to limit power path dI/dt. The sense inductor is placed between the VSW output node and the cathode of the freewheeling (power) diode, and the VD pin is (See Datasheet)", 6 VSW (power) "This is the emitter node of the output switch and has large currents flowing through it. Keep the traces to the switching components as short as possible to minimize electromagnetic radiation and voltage spikes.", 7 SGND (power) "This is the device signal ground pin. The internal reference and feedback amplifier are referred to it. Keep the ground path connection to the FB divider and the VC compensation capacitor free of large ground currents.", 8 GND (power) "These corner package pins are mechanically connected to the die paddle and thus aid in conducting away internally generated heat. As these are electrically connected to the die substrate, they must be held at ground (See Datasheet)", 9 GND (power) "These corner package pins are mechanically connected to the die paddle and thus aid in conducting away internally generated heat. As these are electrically connected to the die substrate, they must be held at ground (See Datasheet)", 10 VIN (power) "This is the high voltage supply pin for the output switch. It also supplies power to the internal control circuitry during start-up conditions or if the VCC pin is left open. A high quality bypass capacitor which meets the (See Datasheet)", 11 NC "Package Pins 2, 11 and 15 are unconnected.", 12 SYNC (in) "Pin to synchronize internal oscillator to external frequency reference. It is directly logic compatible and can be driven with any signal between 10% and 90% duty cycle. The sync function is internally disabled if the FB pin (See Datasheet)", 13 FB (in) "This is the inverting input to the feedback amplifier. The noninverting input of this amplifier is internally tied to the 1.24V reference. This pin also slows down the frequency of the internal oscillator when its voltage is (See Datasheet)", 14 VC "This is the control voltage pin which is the output of the feedback amplifier and the input of the current comparator. Frequency compensation of the overall loop is effected by placing a capacitor (or in most cases a series (See Datasheet)", 15 NC "Package Pins 2, 11 and 15 are unconnected.", 16 GND (power) "These corner package pins are mechanically connected to the die paddle and thus aid in conducting away internally generated heat. As these are electrically connected to the die substrate, they must be held at ground (See Datasheet)"

## LT1777IS#TRPBF
designator U?
Low Noise Step-Down Switching Regulator, 16-pin SOP (S-16), -40 to 125 degC, Pb-Free, Tape and Reel; Manufacturer: Linear Technology; PartNumber: LT1777IS#TRPBF; Frequency Sync Range: 130kHz - 250kHz; Number of Outputs: 1; PackageVersion: Rev. G, 05/2012; PackageReference: S-16; PackageDescription: 16-Pin Plastic Small Outline, Body 9.9 x 3.9 mm, Pitch 1.27 mm; Supplier 1: Digi-Key; Supplier Part Number 1: LT1777IS#TRPBF-ND; Packing: Tape and Reel; RoHS: TRUE; Mounting Technology: Surface Mount; ComponentLink1Description: Manufacturer URL; ComponentLink1URL: http://www.linear.com/; ComponentLink2Description: Datasheet; ComponentLink2URL: http://cds.linear.com/docs/en/datasheet/1777f.pdf; ComponentLink3Description: Package Specification; ComponentLink3URL: http://cds.linear.com/docs/en/packaging/S16%2005-08-1610%20Rev%20G.pdf
footprint LT-S-16_N (SOP, 16-Leads, Body 10x4mm, Pitch 1.27mm, IPC Medium Density)
footprint LT-S-16_L (SOP, 16-Leads, Body 10x4mm, Pitch 1.27mm, IPC High Density)
footprint LT-S-16_M (SOP, 16-Leads, Body 10x4mm, Pitch 1.27mm, IPC Low Density)
pins: 1 GND (power) "These corner package pins are mechanically connected to the die paddle and thus aid in conducting away internally generated heat. As these are electrically connected to the die substrate, they must be held at ground (See Datasheet)", 2 NC "Package Pins 2, 11 and 15 are unconnected.", 3 ~{SHDN} (in) "When pulled below the shutdown mode threshold, nominally 0.5V, this pin turns off the regulator and reduces VIN input current to a few tens of microamperes (shutdown mode). When this pin is held above the shutdown mode (See Datasheet)", 4 VCC (power) "Pin to power the internal control circuitry from the switching supply output. Proper use of this pin enhances overall power supply efficiency. During start-up conditions, internal control circuitry is powered directly from (See Datasheet)", 5 VD (in) "This pin is used in conjunction with a small external sense inductor to limit power path dI/dt. The sense inductor is placed between the VSW output node and the cathode of the freewheeling (power) diode, and the VD pin is (See Datasheet)", 6 VSW (power) "This is the emitter node of the output switch and has large currents flowing through it. Keep the traces to the switching components as short as possible to minimize electromagnetic radiation and voltage spikes.", 7 SGND (power) "This is the device signal ground pin. The internal reference and feedback amplifier are referred to it. Keep the ground path connection to the FB divider and the VC compensation capacitor free of large ground currents.", 8 GND (power) "These corner package pins are mechanically connected to the die paddle and thus aid in conducting away internally generated heat. As these are electrically connected to the die substrate, they must be held at ground (See Datasheet)", 9 GND (power) "These corner package pins are mechanically connected to the die paddle and thus aid in conducting away internally generated heat. As these are electrically connected to the die substrate, they must be held at ground (See Datasheet)", 10 VIN (power) "This is the high voltage supply pin for the output switch. It also supplies power to the internal control circuitry during start-up conditions or if the VCC pin is left open. A high quality bypass capacitor which meets the (See Datasheet)", 11 NC "Package Pins 2, 11 and 15 are unconnected.", 12 SYNC (in) "Pin to synchronize internal oscillator to external frequency reference. It is directly logic compatible and can be driven with any signal between 10% and 90% duty cycle. The sync function is internally disabled if the FB pin (See Datasheet)", 13 FB (in) "This is the inverting input to the feedback amplifier. The noninverting input of this amplifier is internally tied to the 1.24V reference. This pin also slows down the frequency of the internal oscillator when its voltage is (See Datasheet)", 14 VC "This is the control voltage pin which is the output of the feedback amplifier and the input of the current comparator. Frequency compensation of the overall loop is effected by placing a capacitor (or in most cases a series (See Datasheet)", 15 NC "Package Pins 2, 11 and 15 are unconnected.", 16 GND (power) "These corner package pins are mechanically connected to the die paddle and thus aid in conducting away internally generated heat. As these are electrically connected to the die substrate, they must be held at ground (See Datasheet)"